# Altium schematic symbol library 5-534206-4.SchLib: 1 symbol
Pins are listed as number, name and electrical type; pins without a type are passive.

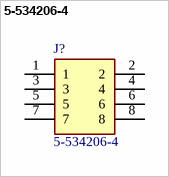
[diagram p0: symbol 5-534206-4]

## 5-534206-4
designator J?
Body Features: Connector Profile Standard | Primary Product Color Black | Configuration Features: Number of Positions 8 | Stackable Yes | Board-to-Board Configuration Parallel | Number of Rows 2 | PCB Mount Orientation Vertical | Contact Features: Contact Base Material Phosphor Bronze | Contact Mating Area Plating Material Thickness .762 MICM | Contact Protection Type Closed Entry Housing | Contact Mating Area Plating Material Thickness 30 MICIN | Contact Shape & Form Square | Contact Type Socket | PCB Cont; Manufacturer_Name: TE Connectivity; Geometry.Height: 8.77mm; Manufacturer_Part_Number: 5-534206-4; Mouser Part Number: 571-5-534206-4; Mouser Price/Stock: https://www.mouser.co.uk/ProductDetail/TE-Connectivity/5-534206-4?qs=Eln3I3szM1ldJZZch%252BwNBQ%3D%3D; Arrow Part Number: 5-534206-4; Arrow Price/Stock: https://www.arrow.com/en/products/5-534206-4/te-connectivity?region=nac; Datasheet Link: https://www.te.com/commerce/DocumentDelivery/DDEController?Action=srchrtrv&DocNm=1307819_SECTION_5&DocType=Catalog%20Section&DocLang=English&PartCntxt=5-534206-4&DocFormat=pdf
footprint RHDR8W69P254_2X4_1016X503X877P
pins: 1, 2, 3, 4, 5, 6, 7, 8